# EAGLE library part LTC3444 (library LTC3444)
LTC3444 - 400mA 3.3 Voltage Switch Regulator - Micropower Synchronous Buck-Boost DC/DC Converter for WCDMA Applications
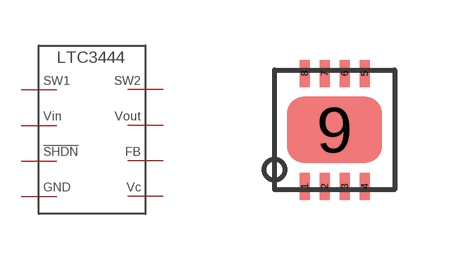
[diagram p0: symbol with the pads of DD8; footprint DD8]

Designator prefix -

## LTC3444 (NAM: LTC3444)  [DD8]
1  !SHDN
2  SW1
3  GND
4  SW2
5  VOUT
6  VIN
7  VC
8  FB
9  GND

## Footprint DD8 (pad centres in mm)
smd 0.25 x 0.675: 1 -0.75,-1.413; 2 -0.25,-1.413; 3 0.25,-1.413; 4 0.75,-1.413; 5 0.75,1.413; 6 0.25,1.413; 7 -0.25,1.413; 8 -0.75,1.413
smd 2.38 x 1.65: 9 0,0